# Altium schematic symbol library B82144F2104J000.SchLib: 1 symbol
Pins are listed as number, name and electrical type; pins without a type are passive.

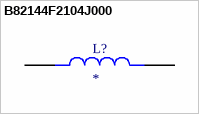
[diagram p0: symbol B82144F2104J000]

## B82144F2104J000
designator L?
MF: {'manufacturer': u'TDK'}; MP: B82144F2104J000; Package: None; Value: *; Availability: Unavailable; Price: None
footprint INDAD1400W80L920D650
pins: 1, 2